# EAGLE library part LM5006 (library texas_instruments)
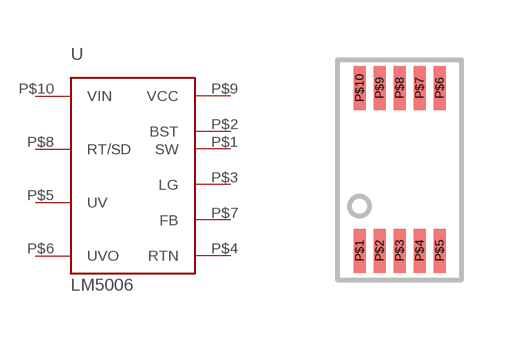
[diagram p3: symbol with the pads of VSSOP_10; footprint VSSOP_10]

Designator prefix -

## LM5006  [VSSOP_10]
P$1  SW
P$2  BST
P$3  LG
P$4  RTN
P$5  UV
P$6  UVO
P$7  FB
P$8  RT/SD
P$9  VCC
P$10  VIN

## Footprint VSSOP_10 (pad centres in mm)
smd 0.3 x 1.1: P$1 0,0; P$2 0.5,0; P$3 1,0; P$4 1.5,0; P$5 2,0; P$6 2,4.075; P$7 1.5,4.075; P$8 1,4.075; P$9 0.5,4.075; P$10 0,4.075